# Altium footprint library JR_expansion.PcbLib: 4 footprints
Each footprint in its own frame and in the unit in brackets; x right, y up, seen from the top. Pads: shape width x height; smd on the part's side, far side on the other; paste and mask are expansions set on the pad; w line width, h text height; cw(c..) or ccw(c..) is an arc to the next point about the centre after c.
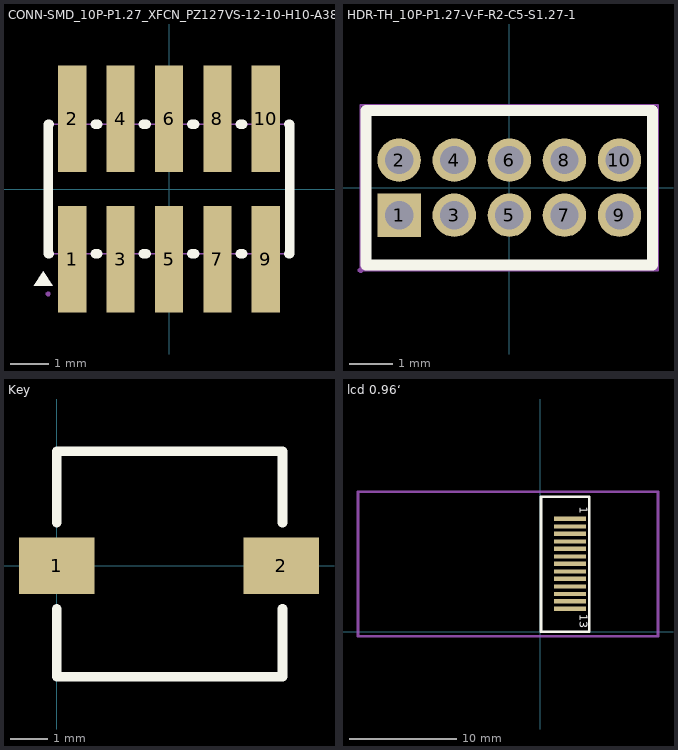
[diagram p0: the footprints below, top view; thin cyan lines are the x and y axes]

## CONN-SMD_10P-P1.27_XFCN_PZ127VS-12-10-H10-A38 [mm]
pads (10):
  rect 0.74x2.8 smd mask+0.05: 1(-2.54,-1.85) 2(-2.54,1.85) 3(-1.27,-1.85) 4(-1.27,1.85) 5(0,-1.85) 6(0,1.85) 7(1.27,-1.85) 8(1.27,1.85) 9(2.54,-1.85) 10(2.54,1.85)
Top Overlay:
  region: -3.302,-2.159 -3.556,-2.54 -3.048,-2.54
  lines w0.254: -3.141,-1.7 -3.175,-1.7 -3.175,1.7 -3.141,1.7 ; -1.939,-1.7 -1.871,-1.7 ; -1.939,1.7 -1.871,1.7 ; -0.669,-1.7 -0.601,-1.7 ; -0.669,1.7 -0.601,1.7 ; 0.601,-1.7 0.669,-1.7 ; 0.601,1.7 0.669,1.7 ; 1.871,-1.7 1.939,-1.7 ; 1.871,1.7 1.939,1.7 ; 3.141,-1.7 3.175,-1.7 3.175,1.7 3.141,1.7
Mechanical 15:
  region: -2.74,-0.635 -2.34,-0.635 -2.34,-2.755 -2.74,-2.755
  region: -2.74,2.763 -2.34,2.763 -2.34,0.643 -2.74,0.643
  region: -1.47,-0.635 -1.07,-0.635 -1.07,-2.755 -1.47,-2.755
  region: -1.47,2.763 -1.07,2.763 -1.07,0.643 -1.47,0.643
  region: -0.2,-0.635 0.2,-0.635 0.2,-2.755 -0.2,-2.755
  region: -0.2,2.763 0.2,2.763 0.2,0.643 -0.2,0.643
  region: 1.07,-0.635 1.47,-0.635 1.47,-2.755 1.07,-2.755
  region: 1.07,2.763 1.47,2.763 1.47,0.643 1.07,0.643
  region: 2.34,-0.635 2.74,-0.635 2.74,-2.755 2.34,-2.755
  region: 2.34,2.763 2.74,2.763 2.74,0.643 2.34,0.643
  region: -3.115,-2.755 -3.115,-2.73 -3.15,-2.695 -3.2,-2.695 -3.235,-2.73 -3.235,-2.755 -3.235,-2.78 -3.2,-2.815 -3.15,-2.815 -3.115,-2.78 -3.115,-2.755
  lines w0.051: -3.175,-1.7 3.175,-1.7 3.175,1.7 -3.175,1.7 -3.175,-1.7

## HDR-TH_10P-P1.27-V-F-R2-C5-S1.27-1 [mm]
pads (10):
  rect 1.001x1.001 hole 0.65 mask+0.051: 1(-2.54,-0.635)
  round 1.001 hole 0.65 mask+0.051: 2(-2.54,0.635) 3(-1.27,-0.635) 4(-1.27,0.635) 5(0,-0.635) 6(0,0.635) 7(1.27,-0.635) 8(1.27,0.635) 9(2.54,-0.635) 10(2.54,0.635)
Top Overlay:
  lines w0.254: -3.302,-1.778 -3.302,1.778 3.302,1.778 3.302,-1.778 -3.302,-1.778
Mechanical 15:
  drawing of 15 lines, arcs and shapes, not listed

## Key [mm]
pads (2):
  rect 2x1.5 smd: 1(0,0) 2(5.969,0)
Top Overlay:
  lines w0.254: 0,-1.143 0,-2.952 6,-2.952 6,-1.143 ; 0,1.143 0,3.048 6,3.048 6,1.143

## lcd 0.96‘ [mm]
pads (13):
  rect 3x0.4 smd: 1(2.794,10.541) 2(2.794,9.841) 3(2.794,9.141) 4(2.794,8.441) 5(2.794,7.741) 6(2.794,7.041) 7(2.794,6.341) 8(2.794,5.641) 9(2.794,4.941) 10(2.794,4.241) 11(2.794,3.541) 12(2.794,2.841) 13(2.794,2.141)
Top Overlay:
  lines w0.254: 0.072,0 0.072,12.6 4.572,12.6 4.572,0 0.072,0
  text "13" at 3.429,1.651 h1.27
  text "1" at 3.429,11.684 h1.27
Mechanical 15:
  lines w0.254: -17,-0.419 11,-0.419 11,13.081 -17,13.081 -17,-0.419